# EAGLE library part FPC50H (library lbm)
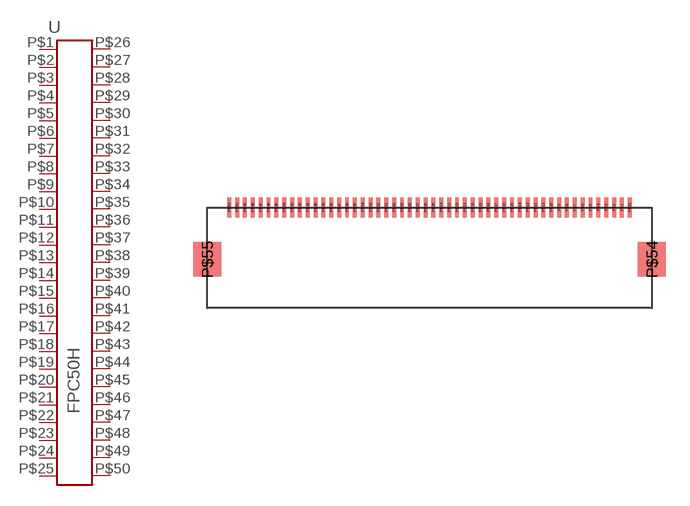
[diagram p2: symbol with the pads of FPC50H; footprint FPC50H]

Designator prefix -

## FPC50H  [FPC50H]
P$1  1  pas
P$2  2  pas
P$3  3  pas
P$4  4  pas
P$5  5  pas
P$6  6  pas
P$7  7  pas
P$8  8  pas
P$9  9  pas
P$10  10  pas
P$11  11  pas
P$12  12  pas
P$13  13  pas
P$14  14  pas
P$15  15  pas
P$16  16  pas
P$17  17  pas
P$18  18  pas
P$19  19  pas
P$20  20  pas
P$21  21  pas
P$22  22  pas
P$23  23  pas
P$24  24  pas
P$25  25  pas
P$26  26  pas
P$27  27  pas
P$28  28  pas
P$29  29  pas
P$30  30  pas
P$31  31  pas
P$32  32  pas
P$33  33  pas
P$34  34  pas
P$35  35  pas
P$36  36  pas
P$37  37  pas
P$38  38  pas
P$39  39  pas
P$40  40  pas
P$41  41  pas
P$42  42  pas
P$43  43  pas
P$44  44  pas
P$45  45  pas
P$46  46  pas
P$47  47  pas
P$48  48  pas
P$49  49  pas
P$50  50  pas

## Footprint FPC50H (pad centres in mm)
smd 0.25 x 1.3: P$1 24.5,0; P$2 24,0; P$3 23.5,0; P$4 23,0; P$5 22.5,0; P$6 22,0; P$7 21.5,0; P$8 21,0; P$9 20.5,0; P$10 20,0; P$11 19.5,0; P$12 19,0; P$13 18.5,0; P$14 18,0; P$15 17.5,0; P$16 17,0; P$17 16.5,0; P$18 16,0; P$19 15.5,0; P$20 15,0; P$21 14.5,0; P$22 14,0; P$23 13.5,0; P$24 13,0; P$25 12.5,0; P$26 12,0; P$27 11.5,0; P$28 11,0; P$29 10.5,0; P$30 10,0; P$31 9.5,0; P$32 9,0; P$33 8.5,0; P$34 8,0; P$35 7.5,0; P$36 7,0; P$37 6.5,0; P$38 6,0; P$39 5.5,0; P$40 5,0; P$41 4.5,0; P$42 4,0; P$43 3.5,0; P$44 3,0; P$45 2.5,0; P$46 2,0; P$47 1.5,0; P$48 1,0; P$49 0.5,0; P$50 0,0; P$51 25,0; P$53 -0.5,0
smd 1.8 x 2.2: P$54 26.4,-3.3; P$55 -1.9,-3.3